# Altium schematic symbol library TEMP_ENCODER.SchLib: 1 symbol
Pins are listed as number, name and electrical type; pins without a type are passive.

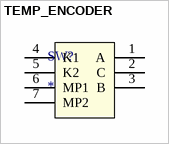
[diagram p0: symbol TEMP_ENCODER]

## TEMP_ENCODER
designator SW?
pins: 1 A, 2 C, 3 B, 4 K1, 5 K2, 6 MP1, 7 MP2